# Altium footprint library Atmel_By_element14_Batch_1-00.PCBLIB: 46 footprints (part 2 of 3)
Each footprint in its own frame and in the unit in brackets; x right, y up, seen from the top. Pads: shape width x height; smd on the part's side, far side on the other; paste and mask are expansions set on the pad; w line width, h text height; cw(c..) or ccw(c..) is an arc to the next point about the centre after c.
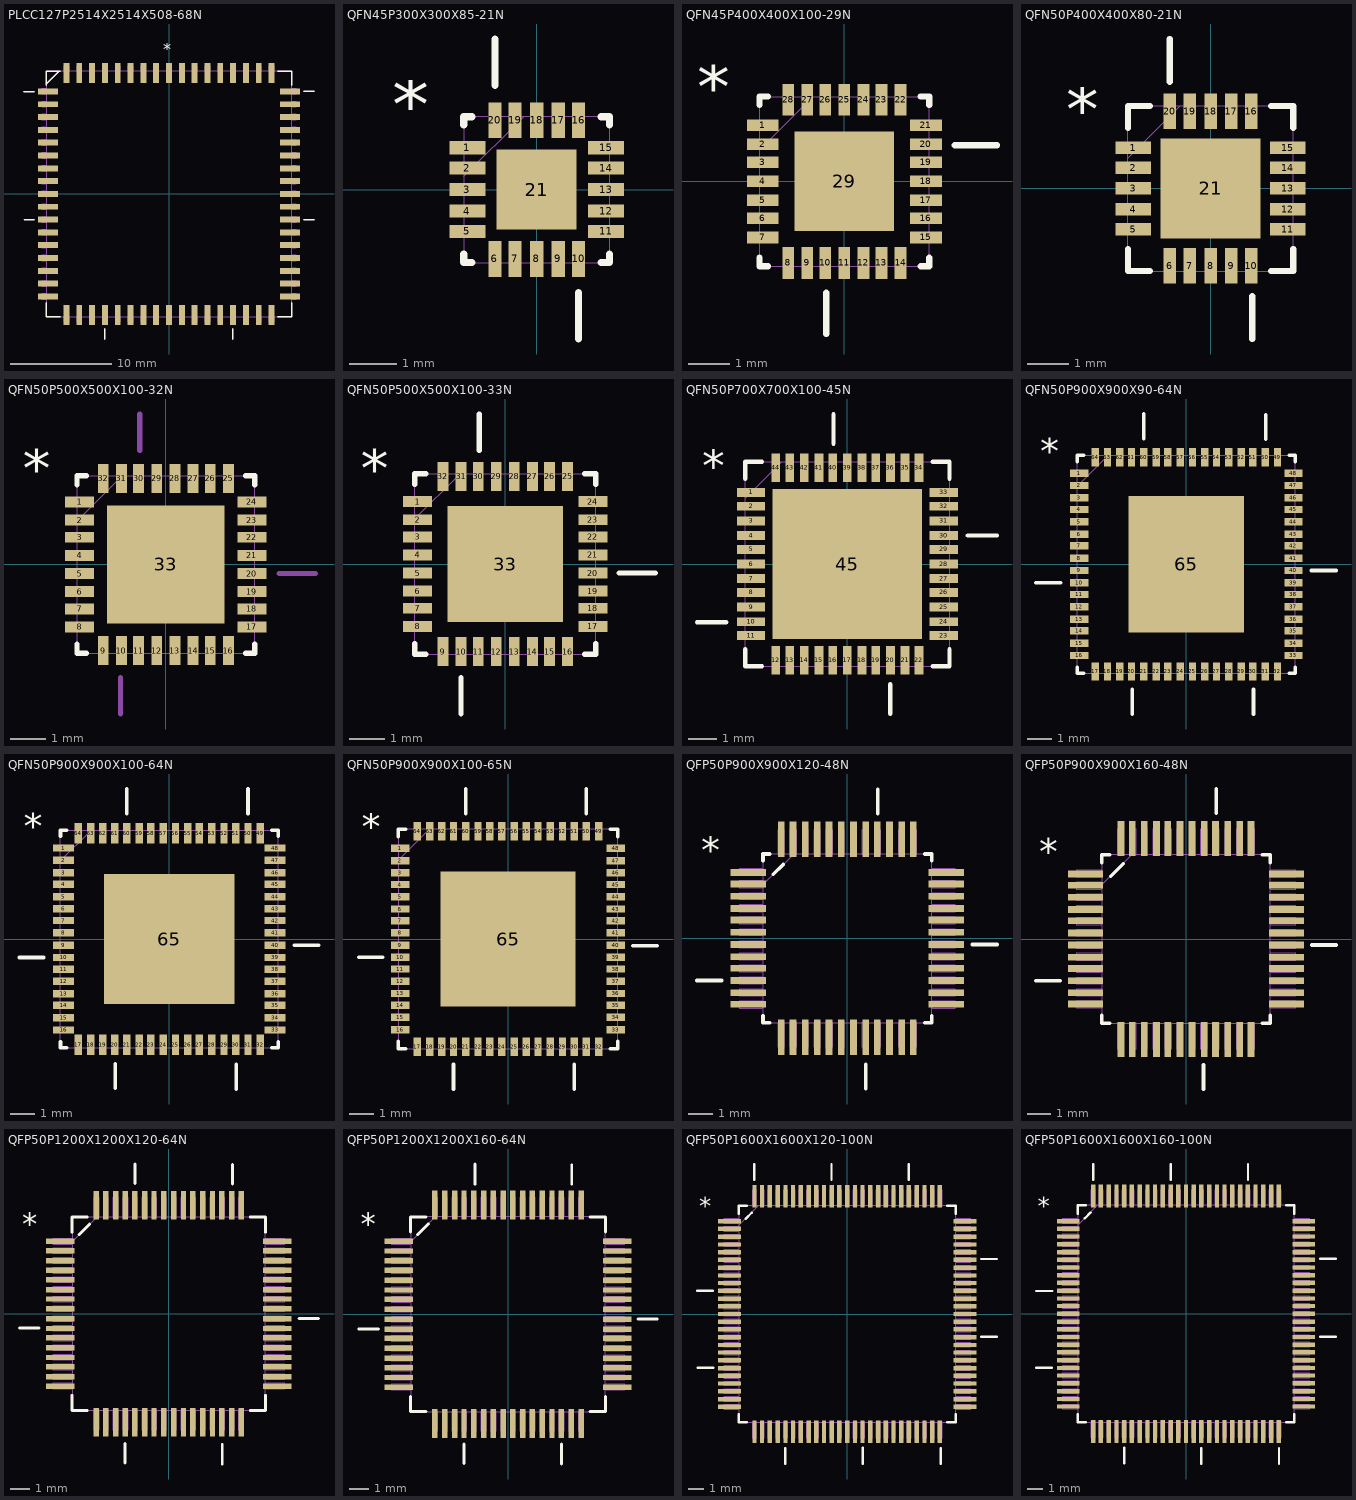
[diagram p1: the footprints below, top view; thin cyan lines are the x and y axes]

## PLCC127P2514X2514X508-68N [mil]
pads (68):
  rect 23x79 smd: 1(0,472) 2(-50,472) 3(-100,472) 4(-150,472) 5(-200,472) 6(-250,472) 7(-300,472) 8(-350,472) 9(-400,472) 27(-400,-472) 28(-350,-472) 29(-300,-472) 30(-250,-472) 31(-200,-472) 32(-150,-472) 33(-100,-472) 34(-50,-472) 35(0,-472) 36(50,-472) 37(100,-472) 38(150,-472) 39(200,-472) 40(250,-472) 41(300,-472) 42(350,-472) 43(400,-472) 61(400,472) 62(350,472) 63(300,472) 64(250,472) 65(200,472) 66(150,472) 67(100,472) 68(50,472)
  rect 79x23 smd: 10(-472,400) 11(-472,350) 12(-472,300) 13(-472,250) 14(-472,200) 15(-472,150) 16(-472,100) 17(-472,50) 18(-472,0) 19(-472,-50) 20(-472,-100) 21(-472,-150) 22(-472,-200) 23(-472,-250) 24(-472,-300) 25(-472,-350) 26(-472,-400) 44(472,-400) 45(472,-350) 46(472,-300) 47(472,-250) 48(472,-200) 49(472,-150) 50(472,-100) 51(472,-50) 52(472,0) 53(472,50) 54(472,100) 55(472,150) 56(472,200) 57(472,250) 58(472,300) 59(472,350) 60(472,400)
Top Overlay:
  lines w6: -566,399 -526,399 ; -565,-100 -525,-100 ; -479,-425 -479,-479 -425,-479 ; -479,425 -479,479 -429,479 ; -479,429 -429,479 ; -425,479 -429,479 ; -251,-566 -251,-526 ; 249,-566 249,-526 ; 425,-479 479,-479 479,-425 ; 425,479 479,479 479,425 ; 526,-101 566,-101 ; 526,400 566,400
  text "*" at -23,527 h77.5
Mechanical 16:
  drawing of 277 lines, arcs and shapes, not listed
  text "*" at -23,527 h77.5

## QFN45P300X300X85-21N [mil]
pads (21):
  rect 30x11 smd: 1(-58,35) 2(-58,18) 3(-58,0) 4(-58,-18) 5(-58,-35) 11(58,-35) 12(58,-18) 13(58,0) 14(58,18) 15(58,35)
  rect 11x30 smd: 6(-35,-58) 7(-18,-58) 8(0,-58) 9(18,-58) 10(35,-58) 16(35,58) 17(18,58) 18(0,58) 19(-18,58) 20(-35,58)
  rect 67x67 smd: 21(0,0)
Top Overlay:
  lines w6: -61,-54 -61,-61 -54,-61 ; -61,54 -61,61 -54,61 ; -35,87 -35,126 ; 35,-125 35,-86 ; 54,-61 61,-61 61,-54 ; 54,61 61,61 61,54
  text "*" at -121,34 h77.5
Mechanical 16:
  lines w0: -61,-41 -61,-30 ; -61,-23 -61,-12 ; -61,-5 -61,5 ; -61,11 -11,61 ; -61,12 -61,23 ; -61,30 -61,41 ; -41,-61 -30,-61 ; -41,61 -30,61 ; -23,-61 -12,-61 ; -23,61 -12,61 ; -5,-61 5,-61 ; -5,61 5,61 ; 12,-61 23,-61 ; 12,61 23,61 ; 30,-61 41,-61 ; 30,61 41,61 ; 61,-41 61,-30 ; 61,-23 61,-12 ; 61,-5 61,5 ; 61,12 61,23 ; 61,30 61,41 ; -61,-61 61,-61 61,61 -61,61 -61,-61
  text "*" at -121,34 h77.5

## QFN45P400X400X100-29N [mil]
pads (29):
  rect 30x11 smd: 1(-77,53) 2(-77,35) 3(-77,18) 4(-77,0) 5(-77,-18) 6(-77,-35) 7(-77,-53) 15(77,-53) 16(77,-35) 17(77,-18) 18(77,0) 19(77,18) 20(77,35) 21(77,53)
  rect 11x30 smd: 8(-53,-77) 9(-35,-77) 10(-18,-77) 11(0,-77) 12(18,-77) 13(35,-77) 14(53,-77) 22(53,77) 23(35,77) 24(18,77) 25(0,77) 26(-18,77) 27(-35,77) 28(-53,77)
  rect 94x94 smd: 29(0,0)
Top Overlay:
  lines w6: -80,-72 -80,-80 -72,-80 ; -80,72 -80,80 -72,80 ; -17,-144 -17,-105 ; 72,-80 80,-80 80,-72 ; 72,80 80,80 80,72 ; 104,34 144,34
  text "*" at -139,52 h77.5
Mechanical 16:
  lines w0: -80,-58 -80,-48 ; -80,-41 -80,-30 ; -80,-23 -80,-12 ; -80,-5 -80,5 ; -80,12 -80,23 ; -80,41 -80,30 -30,80 -41,80 ; -80,48 -80,58 ; -58,-80 -48,-80 ; -58,80 -48,80 ; -41,-80 -30,-80 ; -23,-80 -12,-80 ; -23,80 -12,80 ; -5,-80 5,-80 ; -5,80 5,80 ; 12,-80 23,-80 ; 12,80 23,80 ; 30,-80 41,-80 ; 30,80 41,80 ; 48,-80 58,-80 ; 48,80 58,80 ; 80,-58 80,-48 ; 80,-41 80,-30 ; 80,-23 80,-12 ; 80,-5 80,5 ; 80,12 80,23 ; 80,30 80,41 ; 80,48 80,58 ; -80,-80 -80,80 80,80 80,-80 -80,-80
  text "*" at -139,52 h77.5

## QFN50P400X400X80-21N [mil]
pads (21):
  rect 34x12 smd: 1(-74,39) 2(-74,20) 3(-74,0) 4(-74,-20) 5(-74,-39) 11(74,-39) 12(74,-20) 13(74,0) 14(74,20) 15(74,39)
  rect 12x34 smd: 6(-39,-74) 7(-20,-74) 8(0,-74) 9(20,-74) 10(39,-74) 16(39,74) 17(20,74) 18(0,74) 19(-20,74) 20(-39,74)
  rect 96x96 smd: 21(0,0)
Top Overlay:
  lines w6: -79,-58 -79,-79 -58,-79 ; -79,58 -79,79 -58,79 ; -39,102 -39,143 ; 40,-144 40,-103 ; 58,-79 79,-79 79,-58 ; 58,79 79,79 79,58
  text "*" at -138,39 h77.5
Mechanical 16:
  lines w0: -79,-45 -79,-33 ; -79,-26 -79,-14 ; -79,-6 -79,6 ; -79,14 -79,26 ; -79,29 -29,79 ; -79,33 -79,45 ; -45,-79 -33,-79 ; -45,79 -33,79 ; -26,-79 -14,-79 ; -26,79 -14,79 ; -6,-79 6,-79 ; -6,79 6,79 ; 14,-79 26,-79 ; 14,79 26,79 ; 33,-79 45,-79 ; 33,79 45,79 ; 79,-45 79,-33 ; 79,-26 79,-14 ; 79,-6 79,6 ; 79,14 79,26 ; 79,33 79,45 ; -79,-79 -79,79 79,79 79,-79 -79,-79
  text "*" at -138,39 h77.5

## QFN50P500X500X100-32N [mil]
pads (33):
  rect 32x12 smd: 1(-95,69) 2(-95,49) 3(-95,30) 4(-95,10) 5(-95,-10) 6(-95,-30) 7(-95,-49) 8(-95,-69) 17(95,-69) 18(95,-49) 19(95,-30) 20(95,-10) 21(95,10) 22(95,30) 23(95,49) 24(95,69)
  rect 12x32 smd: 9(-69,-95) 10(-49,-95) 11(-30,-95) 12(-10,-95) 13(10,-95) 14(30,-95) 15(49,-95) 16(69,-95) 25(69,95) 26(49,95) 27(30,95) 28(10,95) 29(-10,95) 30(-30,95) 31(-49,95) 32(-69,95)
  rect 130x130 smd: 33(0,0)
Top Overlay:
  lines w6: -98,-88 -98,-98 -88,-98 ; -98,88 -98,98 -88,98 ; 88,-98 98,-98 98,-88 ; 88,98 98,98 98,88
  text "*" at -158,69 h77.5
Mechanical 14:
  lines w6: -50,-165 -50,-125 ; -29,126 -29,166 ; 125,-10 165,-10
Mechanical 16:
  lines w0: -98,-75 -98,-63 ; -98,-55 -98,-43 ; -98,-35 -98,-24 ; -98,-16 -98,-4 ; -98,4 -98,16 ; -98,24 -98,35 ; -98,43 -98,55 ; -98,48 -48,98 ; -98,63 -98,75 ; -75,-98 -63,-98 ; -75,98 -63,98 ; -55,-98 -43,-98 ; -55,98 -43,98 ; -35,-98 -24,-98 ; -35,98 -24,98 ; -16,-98 -4,-98 ; -16,98 -4,98 ; 4,-98 16,-98 ; 4,98 16,98 ; 24,-98 35,-98 ; 24,98 35,98 ; 43,-98 55,-98 ; 43,98 55,98 ; 63,-98 75,-98 ; 63,98 75,98 ; 98,-75 98,-63 ; 98,-55 98,-43 ; 98,-35 98,-24 ; 98,-16 98,-4 ; 98,4 98,16 ; 98,24 98,35 ; 98,43 98,55 ; 98,63 98,75 ; -98,-98 -98,98 98,98 98,-98 -98,-98
  text "*" at -158,69 h77.5

## QFN50P500X500X100-33N [mil]
pads (33):
  rect 32x12 smd: 1(-97,69) 2(-97,49) 3(-97,30) 4(-97,10) 5(-97,-10) 6(-97,-30) 7(-97,-49) 8(-97,-69) 17(97,-69) 18(97,-49) 19(97,-30) 20(97,-10) 21(97,10) 22(97,30) 23(97,49) 24(97,69)
  rect 12x32 smd: 9(-69,-97) 10(-49,-97) 11(-30,-97) 12(-10,-97) 13(10,-97) 14(30,-97) 15(49,-97) 16(69,-97) 25(69,97) 26(49,97) 27(30,97) 28(10,97) 29(-10,97) 30(-30,97) 31(-49,97) 32(-69,97)
  rect 128x128 smd: 33(0,0)
Top Overlay:
  lines w6: -100,-88 -100,-100 -88,-100 ; -100,88 -100,100 -88,100 ; -49,-166 -49,-126 ; -29,126 -29,166 ; 88,-100 100,-100 100,-88 ; 88,100 100,100 100,88 ; 126,-10 166,-10
  text "*" at -160,69 h77.5
Mechanical 16:
  lines w0: -100,-75 -100,-63 ; -100,-55 -100,-43 ; -100,-35 -100,-24 ; -100,-16 -100,-4 ; -100,4 -100,16 ; -100,24 -100,35 ; -100,43 -100,55 ; -100,50 -50,100 ; -100,63 -100,75 ; -75,-100 -63,-100 ; -75,100 -63,100 ; -55,-100 -43,-100 ; -55,100 -43,100 ; -35,-100 -24,-100 ; -35,100 -24,100 ; -16,-100 -4,-100 ; -16,100 -4,100 ; 4,-100 16,-100 ; 4,100 16,100 ; 24,-100 35,-100 ; 24,100 35,100 ; 43,-100 55,-100 ; 43,100 55,100 ; 63,-100 75,-100 ; 63,100 75,100 ; 100,-75 100,-63 ; 100,-55 100,-43 ; 100,-35 100,-24 ; 100,-16 100,-4 ; 100,4 100,16 ; 100,24 100,35 ; 100,43 100,55 ; 100,63 100,75 ; -100,-100 -100,100 100,100 100,-100 -100,-100
  text "*" at -160,69 h77.5

## QFN50P700X700X100-45N [mil]
pads (45):
  rect 39x12 smd: 1(-132,98) 2(-132,79) 3(-132,59) 4(-132,39) 5(-132,20) 6(-132,0) 7(-132,-20) 8(-132,-39) 9(-132,-59) 10(-132,-79) 11(-132,-98) 23(132,-98) 24(132,-79) 25(132,-59) 26(132,-39) 27(132,-20) 28(132,0) 29(132,20) 30(132,39) 31(132,59) 32(132,79) 33(132,98)
  rect 12x39 smd: 12(-98,-132) 13(-79,-132) 14(-59,-132) 15(-39,-132) 16(-20,-132) 17(0,-132) 18(20,-132) 19(39,-132) 20(59,-132) 21(79,-132) 22(98,-132) 34(98,132) 35(79,132) 36(59,132) 37(39,132) 38(20,132) 39(0,132) 40(-20,132) 41(-39,132) 42(-59,132) 43(-79,132) 44(-98,132)
  rect 205x205 smd: 45(0,0)
Top Overlay:
  lines w6: -206,-80 -166,-80 ; -140,-117 -140,-140 -117,-140 ; -140,117 -140,140 -117,140 ; -19,165 -19,205 ; 59,-205 59,-165 ; 117,-140 140,-140 140,-117 ; 117,140 140,140 140,117 ; 165,39 205,39
  text "*" at -199,98 h77.5
Mechanical 16:
  lines w0: -140,-104 -140,-93 ; -140,-85 -140,-73 ; -140,-65 -140,-53 ; -140,-45 -140,-33 ; -140,-26 -140,-14 ; -140,-6 -140,6 ; -140,14 -140,26 ; -140,33 -140,45 ; -140,53 -140,65 ; -140,73 -140,85 ; -140,90 -90,140 ; -140,93 -140,104 ; -104,-140 -93,-140 ; -104,140 -93,140 ; -85,-140 -73,-140 ; -85,140 -73,140 ; -65,-140 -53,-140 ; -65,140 -53,140 ; -45,-140 -33,-140 ; -45,140 -33,140 ; -26,-140 -14,-140 ; -26,140 -14,140 ; -6,-140 6,-140 ; -6,140 6,140 ; 14,-140 26,-140 ; 14,140 26,140 ; 33,-140 45,-140 ; 33,140 45,140 ; 53,-140 65,-140 ; 53,140 65,140 ; 73,-140 85,-140 ; 73,140 85,140 ; 93,-140 104,-140 ; 93,140 104,140 ; 140,-104 140,-93 ; 140,-85 140,-73 ; 140,-65 140,-53 ; 140,-45 140,-33 ; 140,-26 140,-14 ; 140,-6 140,6 ; 140,14 140,26 ; 140,33 140,45 ; 140,53 140,65 ; 140,73 140,85 ; 140,93 140,104 ; -140,-140 -140,140 140,140 140,-140 -140,-140
  text "*" at -199,98 h77.5

## QFN50P900X900X90-64N [mil]
pads (65):
  rect 30x12 smd: 1(-174,148) 2(-174,128) 3(-174,108) 4(-174,89) 5(-174,69) 6(-174,49) 7(-174,30) 8(-174,10) 9(-174,-10) 10(-174,-30) 11(-174,-49) 12(-174,-69) 13(-174,-89) 14(-174,-108) 15(-174,-128) 16(-174,-148) 33(174,-148) 34(174,-128) 35(174,-108) 36(174,-89) 37(174,-69) 38(174,-49) 39(174,-30) 40(174,-10) 41(174,10) 42(174,30) 43(174,49) 44(174,69) 45(174,89) 46(174,108) 47(174,128) 48(174,148)
  rect 12x30 smd: 17(-148,-174) 18(-128,-174) 19(-108,-174) 20(-89,-174) 21(-69,-174) 22(-49,-174) 23(-30,-174) 24(-10,-174) 25(10,-174) 26(30,-174) 27(49,-174) 28(69,-174) 29(89,-174) 30(108,-174) 31(128,-174) 32(148,-174) 49(148,174) 50(128,174) 51(108,174) 52(89,174) 53(69,174) 54(49,174) 55(30,174) 56(10,174) 57(-10,174) 58(-30,174) 59(-49,174) 60(-69,174) 61(-89,174) 62(-108,174) 63(-128,174) 64(-148,174)
  rect 187x222 smd: 65(0,0)
Top Overlay:
  lines w6: -244,-30 -204,-30 ; -177,-167 -177,-177 -167,-177 ; -177,167 -177,177 -167,177 ; -88,-243 -88,-203 ; -69,204 -69,244 ; 109,-243 109,-203 ; 129,203 129,243 ; 167,-177 177,-177 177,-167 ; 167,177 177,177 177,167 ; 203,-10 243,-10
  text "*" at -237,147 h77.5
Mechanical 16:
  lines w0: -177,-154 -177,-142 ; -177,-134 -177,-122 ; -177,-114 -177,-102 ; -177,-94 -177,-83 ; -177,-75 -177,-63 ; -177,-55 -177,-43 ; -177,-35 -177,-24 ; -177,-16 -177,-4 ; -177,4 -177,16 ; -177,24 -177,35 ; -177,43 -177,55 ; -177,63 -177,75 ; -177,83 -177,94 ; -177,102 -177,114 ; -177,122 -177,134 ; -177,127 -127,177 ; -177,142 -177,154 ; -154,-177 -142,-177 ; -154,177 -142,177 ; -134,-177 -122,-177 ; -134,177 -122,177 ; -114,-177 -102,-177 ; -114,177 -102,177 ; -94,-177 -83,-177 ; -94,177 -83,177 ; -75,-177 -63,-177 ; -75,177 -63,177 ; -55,-177 -43,-177 ; -55,177 -43,177 ; -35,-177 -24,-177 ; -35,177 -24,177 ; -16,-177 -4,-177 ; -16,177 -4,177 ; 4,-177 16,-177 ; 4,177 16,177 ; 24,-177 35,-177 ; 24,177 35,177 ; 43,-177 55,-177 ; 43,177 55,177 ; 63,-177 75,-177 ; 63,177 75,177 ; 83,-177 94,-177 ; 83,177 94,177 ; 102,-177 114,-177 ; 102,177 114,177 ; 122,-177 134,-177 ; 122,177 134,177 ; 142,-177 154,-177 ; 142,177 154,177 ; 177,-154 177,-142 ; 177,-134 177,-122 ; 177,-114 177,-102 ; 177,-94 177,-83 ; 177,-75 177,-63 ; 177,-55 177,-43 ; 177,-35 177,-24 ; 177,-16 177,-4 ; 177,4 177,16 ; 177,24 177,35 ; 177,43 177,55 ; 177,63 177,75 ; 177,83 177,94 ; 177,102 177,114 ; 177,122 177,134 ; 177,142 177,154 ; -177,-177 -177,177 177,177 177,-177 -177,-177
  text "*" at -237,147 h77.5

## QFN50P900X900X100-64N [mil]
pads (65):
  rect 34x12 smd: 1(-172,148) 2(-172,128) 3(-172,108) 4(-172,89) 5(-172,69) 6(-172,49) 7(-172,30) 8(-172,10) 9(-172,-10) 10(-172,-30) 11(-172,-49) 12(-172,-69) 13(-172,-89) 14(-172,-108) 15(-172,-128) 16(-172,-148) 33(172,-148) 34(172,-128) 35(172,-108) 36(172,-89) 37(172,-69) 38(172,-49) 39(172,-30) 40(172,-10) 41(172,10) 42(172,30) 43(172,49) 44(172,69) 45(172,89) 46(172,108) 47(172,128) 48(172,148)
  rect 12x34 smd: 17(-148,-172) 18(-128,-172) 19(-108,-172) 20(-89,-172) 21(-69,-172) 22(-49,-172) 23(-30,-172) 24(-10,-172) 25(10,-172) 26(30,-172) 27(49,-172) 28(69,-172) 29(89,-172) 30(108,-172) 31(128,-172) 32(148,-172) 49(148,172) 50(128,172) 51(108,172) 52(89,172) 53(69,172) 54(49,172) 55(30,172) 56(10,172) 57(-10,172) 58(-30,172) 59(-49,172) 60(-69,172) 61(-89,172) 62(-108,172) 63(-128,172) 64(-148,172)
  rect 212x212 smd: 65(0,0)
Top Overlay:
  lines w6: -244,-30 -204,-30 ; -177,-167 -177,-177 -167,-177 ; -177,167 -177,177 -167,177 ; -88,-243 -88,-203 ; -69,204 -69,244 ; 109,-244 109,-204 ; 128,204 128,244 ; 167,-177 177,-177 177,-167 ; 167,177 177,177 177,167 ; 203,-10 243,-10
  text "*" at -237,147 h77.5
Mechanical 16:
  lines w0: -177,-154 -177,-142 ; -177,-134 -177,-122 ; -177,-114 -177,-102 ; -177,-94 -177,-83 ; -177,-75 -177,-63 ; -177,-55 -177,-43 ; -177,-35 -177,-24 ; -177,-16 -177,-4 ; -177,4 -177,16 ; -177,24 -177,35 ; -177,43 -177,55 ; -177,63 -177,75 ; -177,83 -177,94 ; -177,102 -177,114 ; -177,122 -177,134 ; -177,127 -127,177 ; -177,142 -177,154 ; -154,-177 -142,-177 ; -154,177 -142,177 ; -134,-177 -122,-177 ; -134,177 -122,177 ; -114,-177 -102,-177 ; -114,177 -102,177 ; -94,-177 -83,-177 ; -94,177 -83,177 ; -75,-177 -63,-177 ; -75,177 -63,177 ; -55,-177 -43,-177 ; -55,177 -43,177 ; -35,-177 -24,-177 ; -35,177 -24,177 ; -16,-177 -4,-177 ; -16,177 -4,177 ; 4,-177 16,-177 ; 4,177 16,177 ; 24,-177 35,-177 ; 24,177 35,177 ; 43,-177 55,-177 ; 43,177 55,177 ; 63,-177 75,-177 ; 63,177 75,177 ; 83,-177 94,-177 ; 83,177 94,177 ; 102,-177 114,-177 ; 102,177 114,177 ; 122,-177 134,-177 ; 122,177 134,177 ; 142,-177 154,-177 ; 142,177 154,177 ; 177,-154 177,-142 ; 177,-134 177,-122 ; 177,-114 177,-102 ; 177,-94 177,-83 ; 177,-75 177,-63 ; 177,-55 177,-43 ; 177,-35 177,-24 ; 177,-16 177,-4 ; 177,4 177,16 ; 177,24 177,35 ; 177,43 177,55 ; 177,63 177,75 ; 177,83 177,94 ; 177,102 177,114 ; 177,122 177,134 ; 177,142 177,154 ; -177,-177 -177,177 177,177 177,-177 -177,-177
  text "*" at -237,147 h77.5

## QFN50P900X900X100-65N [mil]
pads (65):
  rect 30x12 smd: 1(-176,148) 2(-176,128) 3(-176,108) 4(-176,89) 5(-176,69) 6(-176,49) 7(-176,30) 8(-176,10) 9(-176,-10) 10(-176,-30) 11(-176,-49) 12(-176,-69) 13(-176,-89) 14(-176,-108) 15(-176,-128) 16(-176,-148) 33(176,-148) 34(176,-128) 35(176,-108) 36(176,-89) 37(176,-69) 38(176,-49) 39(176,-30) 40(176,-10) 41(176,10) 42(176,30) 43(176,49) 44(176,69) 45(176,89) 46(176,108) 47(176,128) 48(176,148)
  rect 12x30 smd: 17(-148,-176) 18(-128,-176) 19(-108,-176) 20(-89,-176) 21(-69,-176) 22(-49,-176) 23(-30,-176) 24(-10,-176) 25(10,-176) 26(30,-176) 27(49,-176) 28(69,-176) 29(89,-176) 30(108,-176) 31(128,-176) 32(148,-176) 49(148,176) 50(128,176) 51(108,176) 52(89,176) 53(69,176) 54(49,176) 55(30,176) 56(10,176) 57(-10,176) 58(-30,176) 59(-49,176) 60(-69,176) 61(-89,176) 62(-108,176) 63(-128,176) 64(-148,176)
  rect 220x220 smd: 65(0,0)
Top Overlay:
  lines w6: -244,-30 -205,-30 ; -179,-167 -179,-179 -167,-179 ; -179,167 -179,179 -167,179 ; -89,-245 -89,-205 ; -69,205 -69,245 ; 108,-245 108,-205 ; 128,205 128,245 ; 167,-179 179,-179 179,-167 ; 167,179 179,179 179,167 ; 204,-11 244,-11
  text "*" at -239,147 h77.5
Mechanical 16:
  lines w0: -179,-154 -179,-142 ; -179,-134 -179,-122 ; -179,-114 -179,-102 ; -179,-94 -179,-83 ; -179,-75 -179,-63 ; -179,-55 -179,-43 ; -179,-35 -179,-24 ; -179,-16 -179,-4 ; -179,4 -179,16 ; -179,24 -179,35 ; -179,43 -179,55 ; -179,63 -179,75 ; -179,83 -179,94 ; -179,102 -179,114 ; -179,122 -179,134 ; -179,129 -129,179 ; -179,142 -179,154 ; -154,-179 -142,-179 ; -154,179 -142,179 ; -134,-179 -122,-179 ; -134,179 -122,179 ; -114,-179 -102,-179 ; -114,179 -102,179 ; -94,-179 -83,-179 ; -94,179 -83,179 ; -75,-179 -63,-179 ; -75,179 -63,179 ; -55,-179 -43,-179 ; -55,179 -43,179 ; -35,-179 -24,-179 ; -35,179 -24,179 ; -16,-179 -4,-179 ; -16,179 -4,179 ; 4,-179 16,-179 ; 4,179 16,179 ; 24,-179 35,-179 ; 24,179 35,179 ; 43,-179 55,-179 ; 43,179 55,179 ; 63,-179 75,-179 ; 63,179 75,179 ; 83,-179 94,-179 ; 83,179 94,179 ; 102,-179 114,-179 ; 102,179 114,179 ; 122,-179 134,-179 ; 122,179 134,179 ; 142,-179 154,-179 ; 142,179 154,179 ; 179,-154 179,-142 ; 179,-134 179,-122 ; 179,-114 179,-102 ; 179,-94 179,-83 ; 179,-75 179,-63 ; 179,-55 179,-43 ; 179,-35 179,-24 ; 179,-16 179,-4 ; 179,4 179,16 ; 179,24 179,35 ; 179,43 179,55 ; 179,63 179,75 ; 179,83 179,94 ; 179,102 179,114 ; 179,122 179,134 ; 179,142 179,154 ; -179,-179 179,-179 179,179 -179,179 -179,-179
  text "*" at -239,147 h77.5

## QFP50P900X900X120-48N [mil]
pads (48):
  rect 58x11 smd: 1(-162,108) 2(-162,89) 3(-162,69) 4(-162,49) 5(-162,30) 6(-162,10) 7(-162,-10) 8(-162,-30) 9(-162,-49) 10(-162,-69) 11(-162,-89) 12(-162,-108) 25(162,-108) 26(162,-89) 27(162,-69) 28(162,-49) 29(162,-30) 30(162,-10) 31(162,10) 32(162,30) 33(162,49) 34(162,69) 35(162,89) 36(162,108)
  rect 11x58 smd: 13(-108,-162) 14(-89,-162) 15(-69,-162) 16(-49,-162) 17(-30,-162) 18(-10,-162) 19(10,-162) 20(30,-162) 21(49,-162) 22(69,-162) 23(89,-162) 24(108,-162) 37(108,162) 38(89,162) 39(69,162) 40(49,162) 41(30,162) 42(10,162) 43(-10,162) 44(-30,162) 45(-49,162) 46(-69,162) 47(-89,162) 48(-108,162)
Top Overlay:
  lines w6: -246,-69 -206,-69 ; -138,-127 -138,-138 -127,-138 ; -138,127 -138,138 -127,138 ; -121,105 -105,121 ; 30,-246 30,-206 ; 50,204 50,244 ; 127,-138 138,-138 138,-127 ; 127,138 138,138 138,127 ; 205,-10 245,-10
  text "*" at -239,108 h77.5
Mechanical 16:
  drawing of 199 lines, arcs and shapes, not listed
  text "*" at -239,108 h77.5

## QFP50P900X900X160-48N [mil]
pads (48):
  rect 58x11 smd: 1(-167,108) 2(-167,89) 3(-167,69) 4(-167,49) 5(-167,30) 6(-167,10) 7(-167,-10) 8(-167,-30) 9(-167,-49) 10(-167,-69) 11(-167,-89) 12(-167,-108) 25(167,-108) 26(167,-89) 27(167,-69) 28(167,-49) 29(167,-30) 30(167,-10) 31(167,10) 32(167,30) 33(167,49) 34(167,69) 35(167,89) 36(167,108)
  rect 11x58 smd: 13(-108,-167) 14(-89,-167) 15(-69,-167) 16(-49,-167) 17(-30,-167) 18(-10,-167) 19(10,-167) 20(30,-167) 21(49,-167) 22(69,-167) 23(89,-167) 24(108,-167) 37(108,167) 38(89,167) 39(69,167) 40(49,167) 41(30,167) 42(10,167) 43(-10,167) 44(-30,167) 45(-49,167) 46(-69,167) 47(-89,167) 48(-108,167)
Top Overlay:
  lines w6: -249,-69 -209,-69 ; -140,-127 -140,-140 -127,-140 ; -140,127 -140,140 -127,140 ; -125,104 -104,125 ; 29,-249 29,-209 ; 50,209 50,249 ; 127,-140 140,-140 140,-127 ; 127,140 140,140 140,127 ; 209,-10 249,-10
  text "*" at -244,108 h77.5
Mechanical 16:
  drawing of 199 lines, arcs and shapes, not listed
  text "*" at -244,108 h77.5

## QFP50P1200X1200X120-64N [mil]
pads (64):
  rect 58x11 smd: 1(-221,148) 2(-221,128) 3(-221,108) 4(-221,89) 5(-221,69) 6(-221,49) 7(-221,30) 8(-221,10) 9(-221,-10) 10(-221,-30) 11(-221,-49) 12(-221,-69) 13(-221,-89) 14(-221,-108) 15(-221,-128) 16(-221,-148) 33(221,-148) 34(221,-128) 35(221,-108) 36(221,-89) 37(221,-69) 38(221,-49) 39(221,-30) 40(221,-10) 41(221,10) 42(221,30) 43(221,49) 44(221,69) 45(221,89) 46(221,108) 47(221,128) 48(221,148)
  rect 11x58 smd: 17(-148,-221) 18(-128,-221) 19(-108,-221) 20(-89,-221) 21(-69,-221) 22(-49,-221) 23(-30,-221) 24(-10,-221) 25(10,-221) 26(30,-221) 27(49,-221) 28(69,-221) 29(89,-221) 30(108,-221) 31(128,-221) 32(148,-221) 49(148,221) 50(128,221) 51(108,221) 52(89,221) 53(69,221) 54(49,221) 55(30,221) 56(10,221) 57(-10,221) 58(-30,221) 59(-49,221) 60(-69,221) 61(-89,221) 62(-108,221) 63(-128,221) 64(-148,221)
Top Overlay:
  lines w6: -304,-29 -264,-29 ; -197,-166 -197,-197 -166,-197 ; -197,166 -197,197 -166,197 ; -183,161 -161,183 ; -89,-304 -89,-264 ; -69,265 -69,305 ; 109,-306 109,-266 ; 130,264 130,304 ; 166,-197 197,-197 197,-166 ; 166,197 197,197 197,166 ; 265,-10 305,-10
  text "*" at -298,147 h77.5
Mechanical 16:
  drawing of 263 lines, arcs and shapes, not listed
  text "*" at -298,147 h77.5

## QFP50P1200X1200X160-64N [mil]
pads (64):
  rect 58x11 smd: 1(-221,148) 2(-221,128) 3(-221,108) 4(-221,89) 5(-221,69) 6(-221,49) 7(-221,30) 8(-221,10) 9(-221,-10) 10(-221,-30) 11(-221,-49) 12(-221,-69) 13(-221,-89) 14(-221,-108) 15(-221,-128) 16(-221,-148) 33(221,-148) 34(221,-128) 35(221,-108) 36(221,-89) 37(221,-69) 38(221,-49) 39(221,-30) 40(221,-10) 41(221,10) 42(221,30) 43(221,49) 44(221,69) 45(221,89) 46(221,108) 47(221,128) 48(221,148)
  rect 11x58 smd: 17(-148,-221) 18(-128,-221) 19(-108,-221) 20(-89,-221) 21(-69,-221) 22(-49,-221) 23(-30,-221) 24(-10,-221) 25(10,-221) 26(30,-221) 27(49,-221) 28(69,-221) 29(89,-221) 30(108,-221) 31(128,-221) 32(148,-221) 49(148,221) 50(128,221) 51(108,221) 52(89,221) 53(69,221) 54(49,221) 55(30,221) 56(10,221) 57(-10,221) 58(-30,221) 59(-49,221) 60(-69,221) 61(-89,221) 62(-108,221) 63(-128,221) 64(-148,221)
Top Overlay:
  lines w6: -302,-30 -262,-30 ; -197,-166 -197,-197 -166,-197 ; -197,166 -197,197 -166,197 ; -183,161 -161,183 ; -89,-302 -89,-263 ; -67,263 -67,304 ; 108,-303 108,-263 ; 129,263 129,302 ; 166,-197 197,-197 197,-166 ; 166,197 197,197 197,166 ; 263,-10 302,-10
  text "*" at -298,147 h77.5
Mechanical 16:
  drawing of 263 lines, arcs and shapes, not listed
  text "*" at -298,147 h77.5

## QFP50P1600X1600X120-100N [mil]
pads (100):
  rect 58x11 smd: 1(-300,236) 2(-300,217) 3(-300,197) 4(-300,177) 5(-300,157) 6(-300,138) 7(-300,118) 8(-300,98) 9(-300,79) 10(-300,59) 11(-300,39) 12(-300,20) 13(-300,0) 14(-300,-20) 15(-300,-39) 16(-300,-59) 17(-300,-79) 18(-300,-98) 19(-300,-118) 20(-300,-138) 21(-300,-157) 22(-300,-177) 23(-300,-197) 24(-300,-217) 25(-300,-236) 51(300,-236) 52(300,-217) 53(300,-197) 54(300,-177) 55(300,-157) 56(300,-138) 57(300,-118) 58(300,-98) 59(300,-79) 60(300,-59) 61(300,-39) 62(300,-20) 63(300,0) 64(300,20) 65(300,39) 66(300,59) 67(300,79) 68(300,98) 69(300,118) 70(300,138) 71(300,157) 72(300,177) 73(300,197) 74(300,217) 75(300,236)
  rect 11x58 smd: 26(-236,-300) 27(-217,-300) 28(-197,-300) 29(-177,-300) 30(-157,-300) 31(-138,-300) 32(-118,-300) 33(-98,-300) 34(-79,-300) 35(-59,-300) 36(-39,-300) 37(-20,-300) 38(0,-300) 39(20,-300) 40(39,-300) 41(59,-300) 42(79,-300) 43(98,-300) 44(118,-300) 45(138,-300) 46(157,-300) 47(177,-300) 48(197,-300) 49(217,-300) 50(236,-300) 76(236,300) 77(217,300) 78(197,300) 79(177,300) 80(157,300) 81(138,300) 82(118,300) 83(98,300) 84(79,300) 85(59,300) 86(39,300) 87(20,300) 88(0,300) 89(-20,300) 90(-39,300) 91(-59,300) 92(-79,300) 93(-98,300) 94(-118,300) 95(-138,300) 96(-157,300) 97(-177,300) 98(-197,300) 99(-217,300) 100(-236,300)
Top Overlay:
  lines w6: -382,59 -342,59 ; -381,-137 -341,-137 ; -276,-255 -276,-276 -255,-276 ; -276,255 -276,276 -255,276 ; -258,243 -243,258 ; -237,342 -237,382 ; -158,-382 -158,-342 ; -40,342 -40,382 ; 40,-381 40,-341 ; 157,342 157,382 ; 238,-382 238,-342 ; 255,-276 276,-276 276,-255 ; 255,276 276,276 276,255 ; 341,-58 381,-58 ; 341,140 381,140
  text "*" at -377,236 h77.5
Mechanical 16:
  drawing of 405 lines, arcs and shapes, not listed
  text "*" at -377,236 h77.5

## QFP50P1600X1600X160-100N [mil]
pads (100):
  rect 58x11 smd: 1(-300,236) 2(-300,217) 3(-300,197) 4(-300,177) 5(-300,157) 6(-300,138) 7(-300,118) 8(-300,98) 9(-300,79) 10(-300,59) 11(-300,39) 12(-300,20) 13(-300,0) 14(-300,-20) 15(-300,-39) 16(-300,-59) 17(-300,-79) 18(-300,-98) 19(-300,-118) 20(-300,-138) 21(-300,-157) 22(-300,-177) 23(-300,-197) 24(-300,-217) 25(-300,-236) 51(300,-236) 52(300,-217) 53(300,-197) 54(300,-177) 55(300,-157) 56(300,-138) 57(300,-118) 58(300,-98) 59(300,-79) 60(300,-59) 61(300,-39) 62(300,-20) 63(300,0) 64(300,20) 65(300,39) 66(300,59) 67(300,79) 68(300,98) 69(300,118) 70(300,138) 71(300,157) 72(300,177) 73(300,197) 74(300,217) 75(300,236)
  rect 11x58 smd: 26(-236,-300) 27(-217,-300) 28(-197,-300) 29(-177,-300) 30(-157,-300) 31(-138,-300) 32(-118,-300) 33(-98,-300) 34(-79,-300) 35(-59,-300) 36(-39,-300) 37(-20,-300) 38(0,-300) 39(20,-300) 40(39,-300) 41(59,-300) 42(79,-300) 43(98,-300) 44(118,-300) 45(138,-300) 46(157,-300) 47(177,-300) 48(197,-300) 49(217,-300) 50(236,-300) 76(236,300) 77(217,300) 78(197,300) 79(177,300) 80(157,300) 81(138,300) 82(118,300) 83(98,300) 84(79,300) 85(59,300) 86(39,300) 87(20,300) 88(0,300) 89(-20,300) 90(-39,300) 91(-59,300) 92(-79,300) 93(-98,300) 94(-118,300) 95(-138,300) 96(-157,300) 97(-177,300) 98(-197,300) 99(-217,300) 100(-236,300)
Top Overlay:
  lines w6: -382,-137 -342,-137 ; -381,58 -341,58 ; -276,-255 -276,-276 -255,-276 ; -276,255 -276,276 -255,276 ; -258,243 -243,258 ; -236,341 -236,381 ; -157,-381 -157,-341 ; -39,341 -39,381 ; 39,-382 39,-342 ; 158,341 158,381 ; 237,-382 237,-342 ; 255,-276 276,-276 276,-255 ; 255,276 276,276 276,255 ; 342,-58 382,-58 ; 342,140 382,140
  text "*" at -377,236 h77.5
Mechanical 16:
  drawing of 405 lines, arcs and shapes, not listed
  text "*" at -377,236 h77.5